# Altium schematic symbol library STM32H473ZI.SchLib: 1 symbol
Pins are listed as number, name and electrical type; pins without a type are passive.

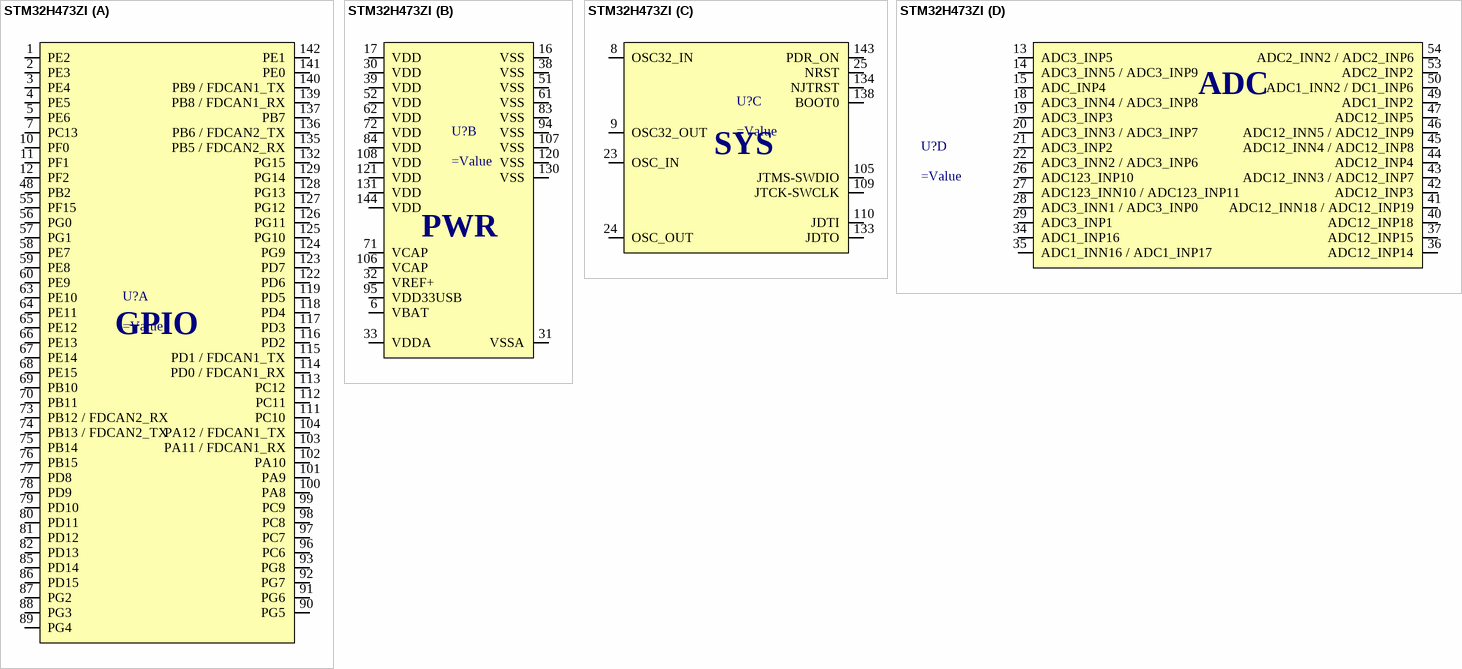
[diagram p0: symbol STM32H473ZI]

## STM32H473ZI
designator U?
part A pins: 1 PE2, 2 PE3, 3 PE4, 4 PE5, 5 PE6, 7 PC13, 10 PF0, 11 PF1, 12 PF2, 48 PB2, 55 PF15, 56 PG0, 57 PG1, 58 PE7, 59 PE8, 60 PE9, 63 PE10, 64 PE11, 65 PE12, 66 PE13, 67 PE14, 68 PE15, 69 PB10, 70 PB11, 73 PB12 / FDCAN2_RX, 74 PB13 / FDCAN2_TX, 75 PB14, 76 PB15, 77 PD8, 78 PD9, 79 PD10, 80 PD11, 81 PD12, 82 PD13, 85 PD14, 86 PD15, 87 PG2, 88 PG3, 89 PG4, 90 PG5, 91 PG6, 92 PG7, 93 PG8, 96 PC6, 97 PC7, 98 PC8, 99 PC9, 100 PA8, 101 PA9, 102 PA10, 103 PA11 / FDCAN1_RX, 104 PA12 / FDCAN1_TX, 111 PC10, 112 PC11, 113 PC12, 114 PD0 / FDCAN1_RX, 115 PD1 / FDCAN1_TX, 116 PD2, 117 PD3, 118 PD4, 119 PD5, 122 PD6, 123 PD7, 124 PG9, 125 PG10, 126 PG11, 127 PG12, 128 PG13, 129 PG14, 132 PG15, 135 PB5 / FDCAN2_RX, 136 PB6 / FDCAN2_TX, 137 PB7, 139 PB8 / FDCAN1_RX, 140 PB9 / FDCAN1_TX, 141 PE0, 142 PE1
part B pins: 6 VBAT (power), 16 VSS (power), 17 VDD (power), 30 VDD (power), 31 VSSA (power), 32 VREF+ (power), 33 VDDA (power), 38 VSS (power), 39 VDD (power), 51 VSS (power), 52 VDD (power), 61 VSS (power), 62 VDD (power), 71 VCAP (power), 72 VDD (power), 83 VSS (power), 84 VDD (power), 94 VSS (power), 95 VDD33USB (power), 106 VCAP (power), 107 VSS (power), 108 VDD (power), 120 VSS (power), 121 VDD (power), 130 VSS (power), 131 VDD (power), 144 VDD (power)
part C pins: 8 OSC32_IN, 9 OSC32_OUT, 23 OSC_IN, 24 OSC_OUT, 25 NRST, 105 JTMS-SWDIO, 109 JTCK-SWCLK, 110 JDTI, 133 JDTO, 134 NJTRST, 138 BOOT0, 143 PDR_ON
part D pins: 13 ADC3_INP5, 14 ADC3_INN5 / ADC3_INP9, 15 ADC_INP4, 18 ADC3_INN4 / ADC3_INP8, 19 ADC3_INP3, 20 ADC3_INN3 / ADC3_INP7, 21 ADC3_INP2, 22 ADC3_INN2 / ADC3_INP6, 26 ADC123_INP10, 27 ADC123_INN10 / ADC123_INP11, 28 ADC3_INN1 / ADC3_INP0, 29 ADC3_INP1, 34 ADC1_INP16, 35 ADC1_INN16 / ADC1_INP17, 36 ADC12_INP14, 37 ADC12_INP15, 40 ADC12_INP18, 41 ADC12_INN18 / ADC12_INP19, 42 ADC12_INP3, 43 ADC12_INN3 / ADC12_INP7, 44 ADC12_INP4, 45 ADC12_INN4 / ADC12_INP8, 46 ADC12_INN5 / ADC12_INP9, 47 ADC12_INP5, 49 ADC1_INP2, 50 ADC1_INN2 / DC1_INP6, 53 ADC2_INP2, 54 ADC2_INN2 / ADC2_INP6
part A text: GPIO
part B text: PWR
part C text: SYS
part D text: ADC